# Altium footprint library 28pins_project.PcbLib: 27 footprints (part 1 of 2)
Each footprint in its own frame and in the unit in brackets; x right, y up, seen from the top. Pads: shape width x height; smd on the part's side, far side on the other; paste and mask are expansions set on the pad; w line width, h text height; cw(c..) or ccw(c..) is an arc to the next point about the centre after c.
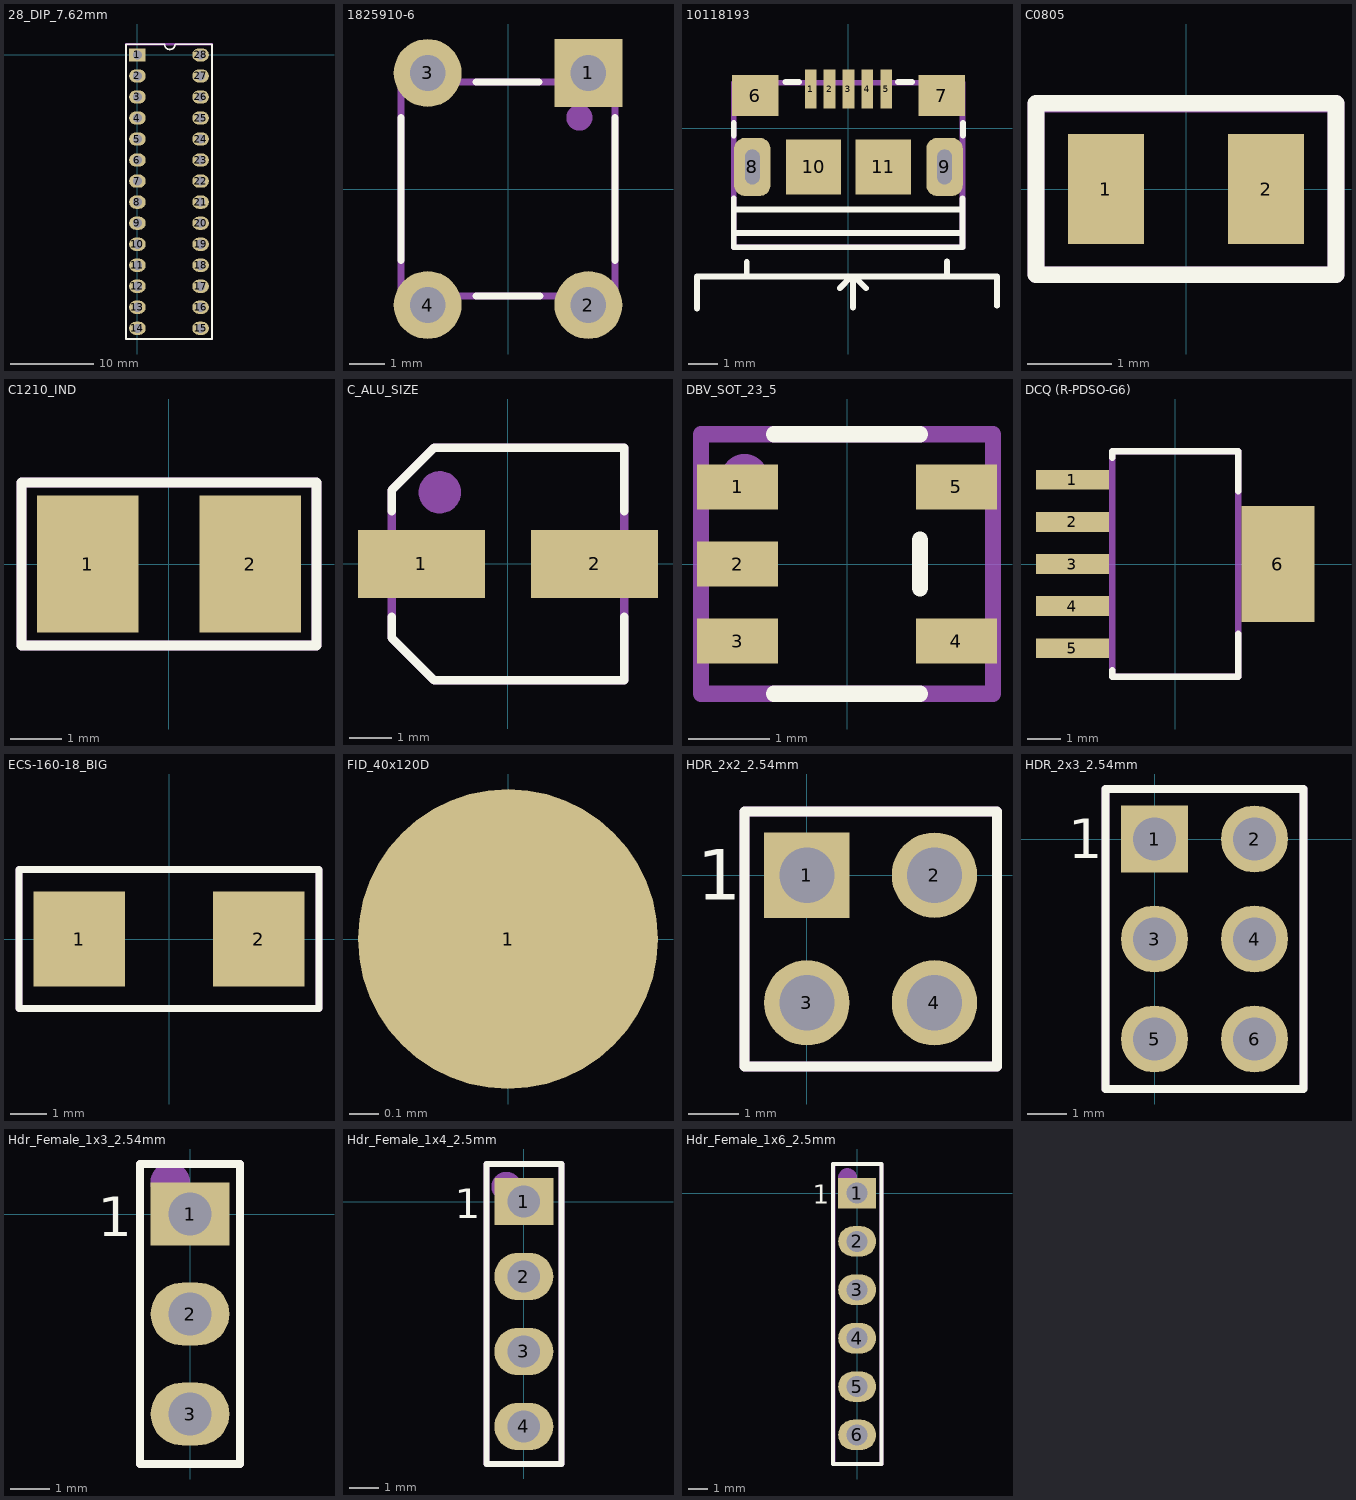
[diagram p0: the footprints below, top view; thin cyan lines are the x and y axes]

## 28_DIP_7.62mm [mm]
pads (28):
  rect 2x1.6 / inner rect 2.5x1.6 / far side rect 2x1.6 hole 1.1: 1(0,0)
  oval 2x1.6 / inner oval 2.5x1.6 / far side oval 2x1.6 hole 1.1: 2(0,-2.54) 3(0,-5.08) 4(0,-7.62) 5(0,-10.16) 6(0,-12.7) 7(0,-15.24) 8(0,-17.78) 9(0,-20.32) 10(0,-22.86) 11(0,-25.4) 12(0,-27.94) 13(0,-30.48) 14(0,-33.02) 15(7.62,-33.02) 16(7.62,-30.48) 17(7.62,-27.94) 18(7.62,-25.4) 19(7.62,-22.86) 20(7.62,-20.32) 21(7.62,-17.78) 22(7.62,-15.24) 23(7.62,-12.7) 24(7.62,-10.16) 25(7.62,-7.62) 26(7.62,-5.08) 27(7.62,-2.54) 28(7.62,0)
Top Overlay:
  lines w0.2: -1.39,-34.31 9.01,-34.31 9.01,1.29 4.545,1.29 cw(c3.91,1.29) 3.275,1.29 -1.39,1.29 -1.39,-34.31
Assembly Notes:
  circle w0.5: c0.026,-0.022 r0.122
  lines w0.254: -1.39,-34.31 -1.39,1.29 9.01,1.29 9.01,-34.31 -1.39,-34.31
  text ".Designator" at 4.71,-22.41 h3
3D body "User Library-DIP-28P-M04.step": height 11.1, standoff 2.9, extent -0.19,-34.21 7.68,1.19

## 28_DIP_7.62MM_SOCKET [mm]
3D body "dil_socket.stp": height 4.2, standoff -3.17, extent -1.24,-34.26 8.86,1.24

## 1825910-6 [mm]
pads (4):
  rect 1.9x1.9 hole 1: 1(2.25,3.25)
  round 1.9 hole 1: 2(2.25,-3.25) 3(-2.25,3.25) 4(-2.25,-3.25)
Top Overlay:
  lines w0.2: -3,-2 -3,2 ; -0.9,-3 0.9,-3 ; -0.9,3 0.87,3 ; 3,-2 3,2
Assembly Notes:
  circle w0.5: c2,2 r0.115
  lines w0.2: -3,-3 -3,3 3,3 3,-3 -3,-3
  text ".Designator" at -0.85,-0.517 h1
3D body "User Library-FSM4JLH(1825910-5).step": height 5, standoff -3.51, extent -2.995,-3.9 2.995,3.9

## 10118193 [mm]
pads (11):
  rect 0.4x1.35 smd mask+0.05: 1(-1.3,1.338) 2(-0.65,1.338) 3(0,1.338) 4(0.65,1.338) 5(1.3,1.338)
  rect 1.6x1.4 smd: 6(-3.2,1.112) 7(3.2,1.112)
  rrect60% 1.25x2 hole 0.5 slot 1.2 at 90 deg: 8(-3.3,-1.338) 9(3.3,-1.338)
  rect 1.9x1.9 smd: 10(-1.2,-1.338) 11(1.2,-1.338)
Top Overlay:
  lines w0.2: -5.2,-6.2 -5.2,-5.1 5.1,-5.1 5.1,-6.1 ; -3.937,-3.6 3.867,-3.6 ; -3.937,-2.8 3.906,-2.8 ; -3.937,-2.413 -3.937,-4.091 3.92,-4.091 3.92,-2.421 ; -3.937,-0.254 -3.937,0.178 ; -3.495,-5.1 -3.495,-4.605 ; -2.159,1.575 -1.702,1.575 ; -0.3,-5.5 0.1,-5.1 0.16,-5.1 ; 0.16,-6.16 0.16,-5.1 ; 0.6,-5.5 0.2,-5.1 0.16,-5.1 ; 1.702,1.575 2.184,1.575 ; 3.38,-5.1 3.38,-4.58 ; 3.937,-0.254 3.937,0.178
Assembly Notes:
  lines w0.2: -3.937,-4.091 -3.937,1.543 -3.926,1.554 3.92,1.554 3.92,-4.091 -3.937,-4.091
  text ".Designator" at -1.95,-1.754 h1
3D body "10118193-0001lfc.stp": height 2.87, standoff -0.73, extent -3.925,-4.103 3.932,1.558

## C0805 [mm]
pads (2):
  rect 0.9x1.3 smd: 1(-0.95,0) 2(0.95,0)
Top Overlay:
  lines w0.2: -1.778,-1.016 -1.778,1.016 1.778,1.016 1.778,-1.016 -1.778,-1.016
Assembly Notes:
  lines w0.2: -1.778,-1.016 -1.778,1.006 1.768,1.006 1.778,1.016 1.778,-1.016 -1.778,-1.016
  text ".Designator" at -0.4,-0.157 h0.6
3D body "CAPC2012X95N EIA 0805.step": height 0.96, standoff 0.01, extent -1,-0.6 1,0.6
3D body "CAPC2012X95N EIA 0805.step": height 1.46, standoff 0.51, extent -1,-0.6 1,0.6

## C1210_IND [mm]
pads (2):
  rect 2x2.7 smd: 1(-1.6,0) 2(1.6,0)
Top Overlay:
  lines w0.2: -2.9,-1.6 2.9,-1.6 2.9,1.6 -2.9,1.6 -2.9,-1.6
Assembly Notes:
  lines w0.2: -2.9,-1.6 2.9,-1.6 2.9,1.6 -2.9,1.6 -2.9,-1.6
  text ".Designator" at -1.45,-0.203 h1
3D body: height 2.7, standoff 0, extent 1.321,-1.245 1.626,1.245
3D body: height 2.7, standoff 0, extent -1.6,-1.245 -1.295,1.245
3D body: height 2.7, standoff 0, extent -1.295,-1.245 1.321,1.245

## C_ALU_SIZE [mm]
pads (2):
  rect 3x1.6 smd: 1(-2.05,0) 2(2.05,0)
Top Overlay:
  lines w0.2: -2.75,-1.25 -2.75,-1.75 -1.75,-2.75 2.75,-2.75 2.75,-1.25 ; -2.75,1.25 -2.75,1.5 -2.75,1.75 -1.75,2.75 2.75,2.75 2.75,1.25
Assembly Notes:
  circle w0.5: c-1.614,1.697 r0.25
  lines w0.2: -2.75,-1.748 -1.748,-2.75 2.75,-2.75 2.75,2.75 -1.75,2.75 -2.75,1.75 -2.75,-1.748
  text ".Designator" at -1.55,-0.467 h1
3D body "capacitor size C.step": height 5.41, standoff -0.01, extent -2.95,-2.65 2.95,2.65

## DBV_SOT_23_5 [mm]
pads (5):
  rect 1x0.55 smd: 1(-1.35,0.95) 2(-1.35,0) 3(-1.35,-0.95) 4(1.35,-0.95) 5(1.35,0.95)
Top Overlay:
  lines w0.2: -0.9,-1.6 0.9,-1.6 ; -0.9,1.6 0.9,1.6 ; 0.9,-0.3 0.9,0.3
Assembly Notes:
  circle w0.5: c-1.261,1.065 r0.041
  lines w0.2: -1.8,-1.6 -1.8,1.6 1.8,1.6 1.8,-1.6 -1.8,-1.6
  text ".Designator" at -0.842,-0.375 h0.6
3D body "DBV.step": height 1.61, standoff -0.01, extent -1.514,-1.525 1.514,1.525

## DCQ (R-PDSO-G6) [mm]
pads (6):
  rect 2.2x0.6 smd: 1(-3.1,2.54) 2(-3.1,1.27) 3(-3.1,0) 4(-3.1,-1.27) 5(-3.1,-2.54)
  rect 2.2x3.5 smd: 6(3.1,0)
Top Overlay:
  lines w0.2: -1.9,-3.2 -1.9,-3.4 1.9,-3.4 1.9,-2.1 ; -1.9,3.2 -1.9,3.4 1.9,3.4 1.9,2.2
Assembly Notes:
  lines w0.2: -1.9,-3.4 -1.9,3.4 1.9,3.4 1.9,-3.4 -1.9,-3.4
  text ".Designator" at -1.07,-0.47 h1.5
3D body "TPS73701DCQ.step": height 1.79, standoff -0.01, extent -3.63,-3.275 3.63,3.275

## ECS-160-18_BIG [mm]
pads (2):
  rect 2.5x2.6 smd: 1(-2.45,0) 2(2.45,0)
Top Overlay:
  lines w0.2: -4.1,-1.9 -4.1,1.9 4.1,1.9 4.1,-1.9 -4.1,-1.9
Assembly Notes:
  lines w0.2: -4.1,-1.9 -4.1,1.9 4.1,1.9 4.1,-1.9 -4.1,-1.9
  text ".Designator" at -1.546,-0.313 h1
3D body "ECS-160-18-23G-JGN-TR.STEP": height 1.21, standoff 0.01, extent -3,-1.75 3,1.75

## FID_40x120D [mil]
pads (1):
  round 40 smd paste-40 mask+40: 1(0,0)

## HDR_2x2_2.54mm [mm]
pads (4):
  rect 1.7x1.7 hole 1.1: 1(0,0)
  round 1.7 hole 1.1: 2(2.54,0) 3(0,-2.54) 4(2.54,-2.54)
Top Overlay:
  lines w0.2: -1.245,-3.81 3.785,-3.81 3.785,1.27 -1.245,1.27 -1.245,-3.81
  text "1" at -2.188,-0.486 h1
Assembly Notes:
  circle w0.5: c-0.406,0.356 r0.105
  lines w0.2: -1.245,-3.81 3.785,-3.81 3.785,1.268 3.783,1.27 -1.245,1.27 -1.245,-3.81
  text ".Designator" at 1.636,-1.652 h1
3D body "1976780.stp": height 7.89, standoff -3.04, extent -1.245,-3.826 3.785,1.289

## HDR_2x3_2.54mm [mm]
pads (6):
  rect 1.7x1.7 hole 1.1: 1(0,0)
  round 1.7 hole 1.1: 2(2.54,0) 3(0,-2.54) 4(2.54,-2.54) 5(0,-5.08) 6(2.54,-5.08)
Top Overlay:
  lines w0.2: -1.245,-6.35 3.785,-6.35 3.785,1.27 -1.245,1.27 -1.245,-6.35
  text "1" at -2.188,-0.486 h1
Assembly Notes:
  circle w0.5: c-0.406,0.356 r0.105
  lines w0.2: -1.245,-6.35 -1.245,1.27 3.783,1.27 3.785,1.268 3.785,-6.318 3.753,-6.35 -1.245,-6.35
  text ".Designator" at 1.498,-4.955 h1
3D body "961206-6404-AR.stp": height 11.3, standoff -3.3, extent -1.23,-6.35 3.77,1.27

## Hdr_Female_1x3_2.54mm [mm]
pads (3):
  rect 2x1.6 hole 1.1: 1(0,0)
  oval 2x1.6 hole 1.1: 2(0,-2.54) 3(0,-5.08)
Top Overlay:
  lines w0.2: 0,0 0,0.254 ; -1.27,-6.35 -1.27,1.27 1.27,1.27 1.27,-6.35 -1.27,-6.35
  text "1" at -2.34,-0.562 h1
Assembly Notes:
  circle w0.5: c-0.503,0.8 r0.254
  lines w0.2: -1.27,-6.35 1.27,-6.35 1.27,1.27 -1.27,1.27 -1.27,-0.976 -1.27,-6.33
  text ".Designator" at 0.282,-4.364 h1
3D body "HDR_1x3_White.stp": height 8.39, standoff -3.11, extent -1.205,-6.153 1.205,1.067

## Hdr_Female_1x4_2.5mm [mm]
pads (4):
  rect 2x1.6 hole 1.1: 1(0,0)
  oval 2x1.6 hole 1.1: 2(0,-2.54) 3(0,-5.08) 4(0,-7.62)
Top Overlay:
  lines w0.2: -1.27,-8.89 -1.27,1.27 1.27,1.27 1.27,-8.89 -1.27,-8.89
  text "1" at -2.34,-0.562 h1
Assembly Notes:
  circle w0.5: c-0.59,0.503 r0.254
  lines w0.2: -1.27,1.27 -1.27,-8.89 1.27,-8.89 1.27,1.27 -1.25,1.27 ; -1.257,-8.85 -1.237,-8.87
  text ".Designator" at 0.762,-6.858 h1.52
3D body "HDR_1x4_White.stp": height 8.39, standoff -3.11, extent -1.205,-8.693 1.205,1.067

## Hdr_Female_1x6_2.5mm [mm]
pads (6):
  rect 2x1.6 hole 1.1: 1(0,0)
  oval 2x1.6 hole 1.1: 2(0,-2.54) 3(0,-5.08) 4(0,-7.62) 5(0,-10.16) 6(0,-12.7)
Top Overlay:
  lines w0.2: 0,0 0,0.254 ; -1.27,-14.224 -1.27,1.524 1.27,1.524 1.27,-14.224 -1.27,-14.224
  text "1" at -2.34,-0.562 h1
Assembly Notes:
  circle w0.5: c-0.503,0.8 r0.254
  lines w0.2: -1.25,1.47 -1.25,-14.224 ; -1.25,-14.224 1.27,-14.224 1.27,1.479 1.225,1.524 -1.27,1.524 -1.27,-0.976 -1.25,-0.996 -1.25,-14.224
  text ".Designator" at 0.508,-9.75 h1.52
3D body "m20-7820646_asm.stp": height 8.5, standoff -3, extent -1.23,-14.193 1.27,1.447